# EAGLE library part PDIP20_PROTO_LEADS (library edebill)
PDIP 20, with 2 extra pads for each pin, plus 2 rows running down the center under the chip
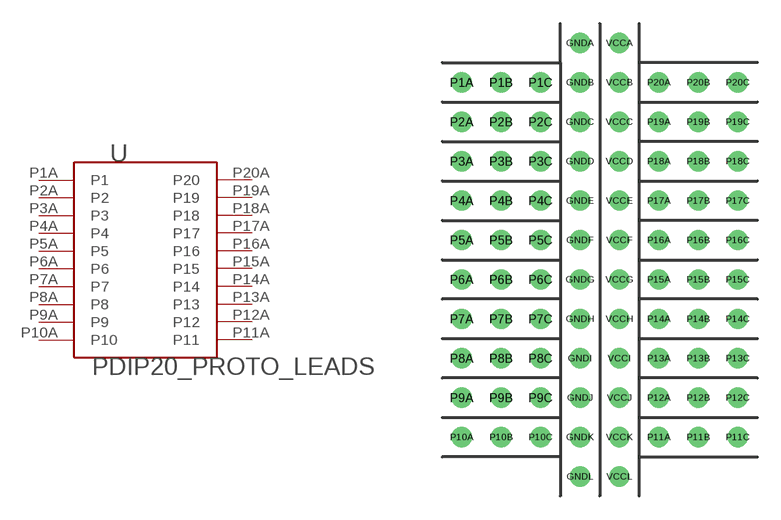
[diagram p0: symbol with the pads of PDIP20_PROTO_LEADS; footprint PDIP20_PROTO_LEADS]

Designator prefix -

## PDIP20_PROTO_LEADS  [PDIP20_PROTO_LEADS]
P1A  P1
P2A  P2
P3A  P3
P4A  P4
P5A  P5
P6A  P6
P7A  P7
P8A  P8
P9A  P9
P10A  P10
P11A  P11
P12A  P12
P13A  P13
P14A  P14
P15A  P15
P16A  P16
P17A  P17
P18A  P18
P19A  P19
P20A  P20

## Footprint PDIP20_PROTO_LEADS (pad centres in mm)
drill 0.8 round: GNDA -1.27,13.97; GNDB -1.27,11.43; GNDC -1.27,8.89; GNDD -1.27,6.35; GNDE -1.27,3.81; GNDF -1.27,1.27; GNDG -1.27,-1.27; GNDH -1.27,-3.81; GNDI -1.27,-6.35; GNDJ -1.27,-8.89; GNDK -1.27,-11.43; GNDL -1.27,-13.97; P1A -8.89,11.43; P1B -6.35,11.43; P1C -3.81,11.43; P2A -8.89,8.89; P2B -6.35,8.89; P2C -3.81,8.89; P3A -8.89,6.35; P3B -6.35,6.35; P3C -3.81,6.35; P4A -8.89,3.81; P4B -6.35,3.81; P4C -3.81,3.81; P5A -8.89,1.27; P5B -6.35,1.27; P5C -3.81,1.27; P6A -8.89,-1.27; P6B -6.35,-1.27; P6C -3.81,-1.27; P7A -8.89,-3.81; P7B -6.35,-3.81; P7C -3.81,-3.81; P8A -8.89,-6.35; P8B -6.35,-6.35; P8C -3.81,-6.35; P9A -8.89,-8.89; P9B -6.35,-8.89; P9C -3.81,-8.89; P10A -8.89,-11.43; P10B -6.35,-11.43; P10C -3.81,-11.43; P11A 3.81,-11.43; P11B 6.35,-11.43; P11C 8.89,-11.43; P12A 3.81,-8.89; P12B 6.35,-8.89; P12C 8.89,-8.89; P13A 3.81,-6.35; P13B 6.35,-6.35; P13C 8.89,-6.35; P14A 3.81,-3.81; P14B 6.35,-3.81; P14C 8.89,-3.81; P15A 3.81,-1.27; P15B 6.35,-1.27; P15C 8.89,-1.27; P16A 3.81,1.27; P16B 6.35,1.27; P16C 8.89,1.27; P17A 3.81,3.81; P17B 6.35,3.81; P17C 8.89,3.81; P18A 3.81,6.35; P18B 6.35,6.35; P18C 8.89,6.35; P19A 3.81,8.89; P19B 6.35,8.89; P19C 8.89,8.89; P20A 3.81,11.43; P20B 6.35,11.43; P20C 8.89,11.43; VCCA 1.27,13.97; VCCB 1.27,11.43; VCCC 1.27,8.89; VCCD 1.27,6.35; VCCE 1.27,3.81; VCCF 1.27,1.27; VCCG 1.27,-1.27; VCCH 1.27,-3.81; VCCI 1.27,-6.35; VCCJ 1.27,-8.89; VCCK 1.27,-11.43; VCCL 1.27,-13.97